# Altium schematic symbol library SLA-05VDC-SL-A.SchLib: 1 symbol
Pins are listed as number, name and electrical type; pins without a type are passive.

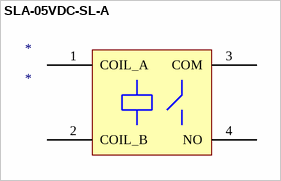
[diagram p0: symbol SLA-05VDC-SL-A]

## SLA-05VDC-SL-A
designator *
footprint Songle_SLA-05VDC-SL-A
pins: 1 COIL_A, 2 COIL_B, 3 COM, 4 NO